# Altium schematic symbol library kmilo17pet-LT_PMIC_LT.SchLib: 2252 symbols (part 83 of 124)
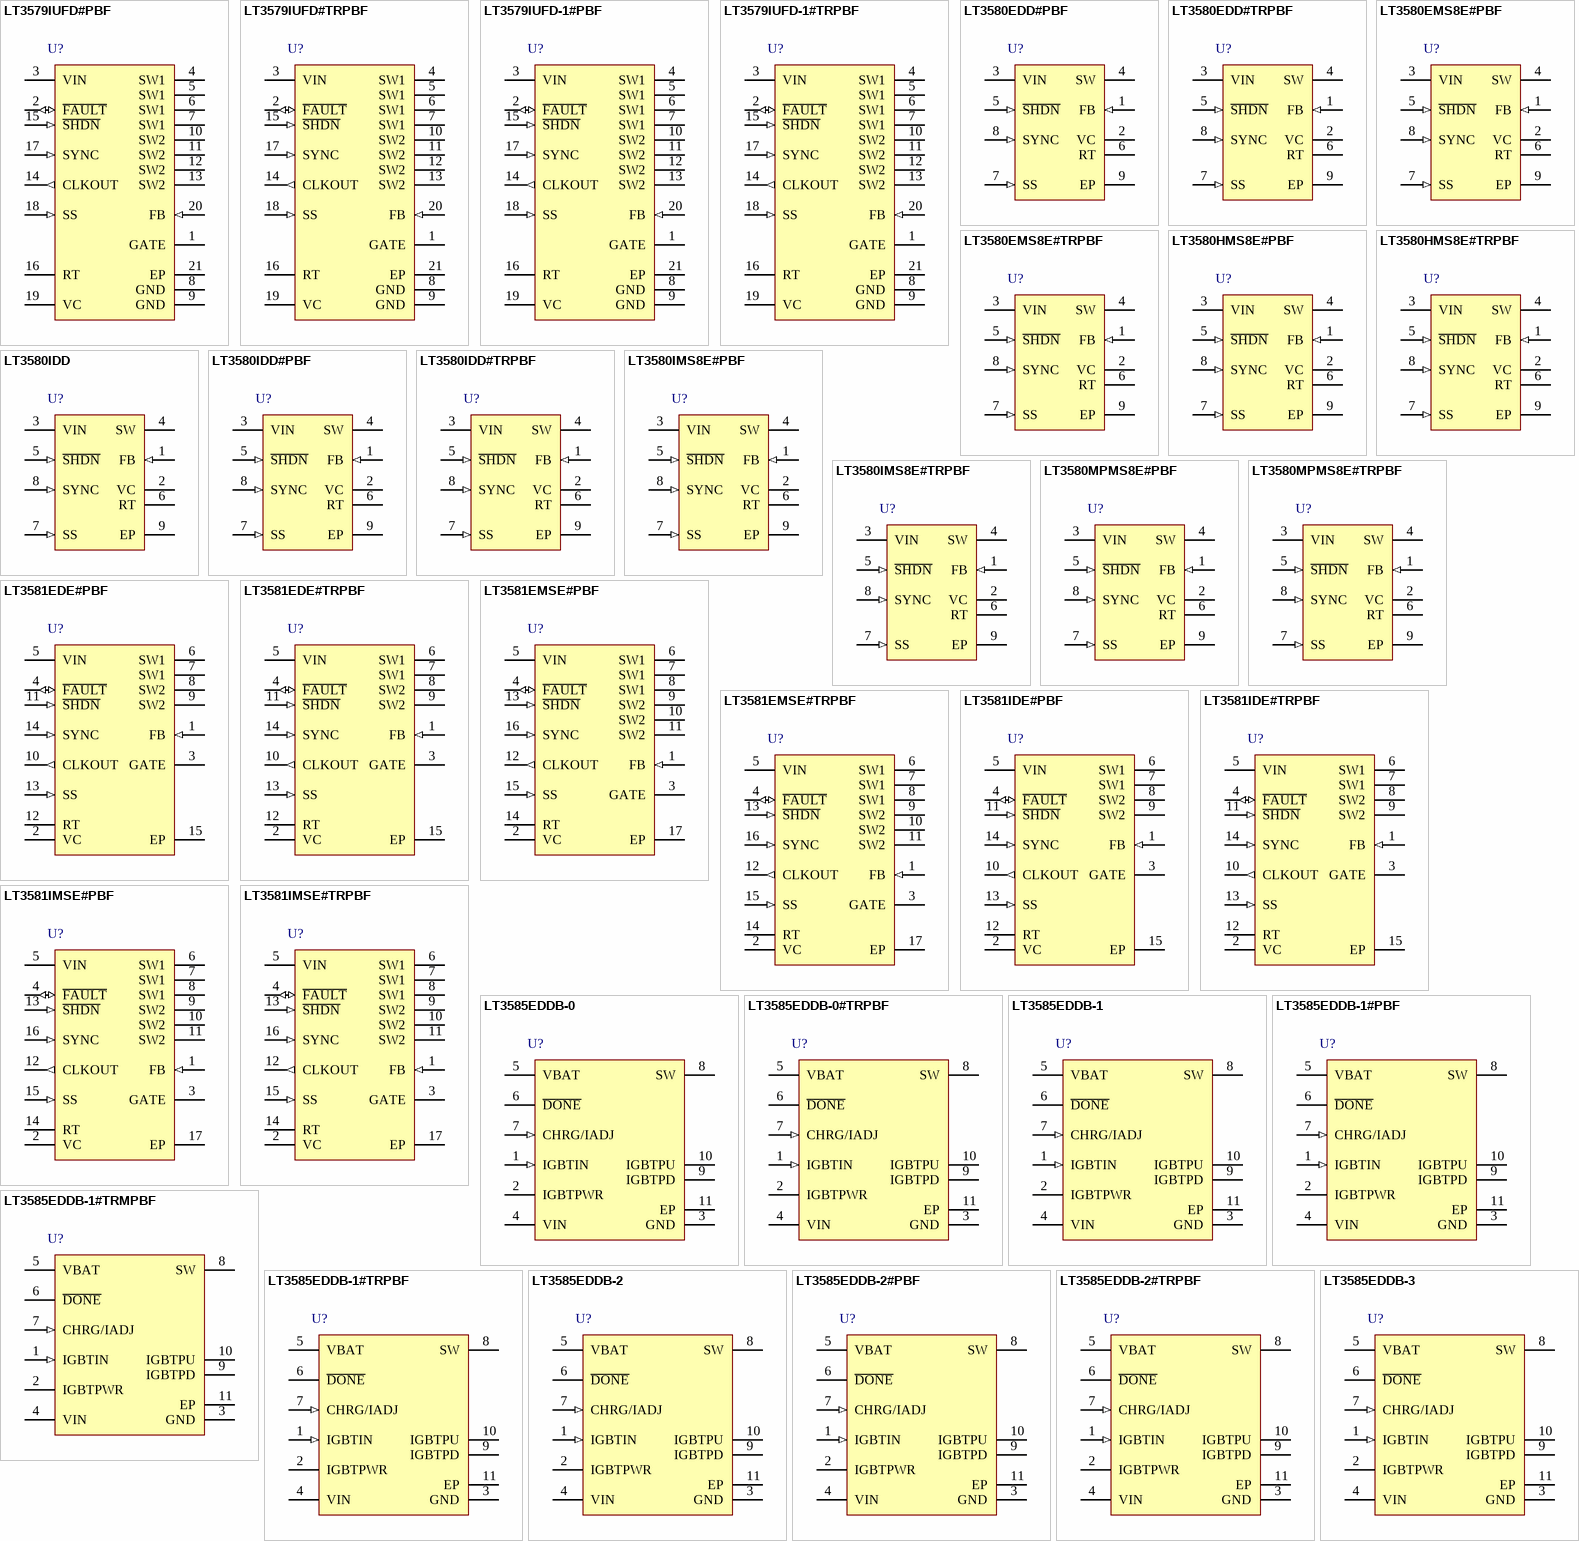
[diagram p153: symbols LT3579IUFD#PBF to LT3585EDDB-3]

## LT3580IDD#PBF
designator U?
Boost / Inverting DC/DC Converter with 2 A Switch, Soft-Start, and Synchronization, 8-pin SON (DD-8), -40 to 125 deC, Pb-Free; Manufacturer: Linear Technology; PartNumber: LT3580IDD#PBF; Number of Outputs: 1; PackageReference: DD-8; PackageDescription: 8-Pin Plastic DFN, Body 3 x 3 mm, Pitch 0.5 mm; Supplier 1: Digi-Key; Supplier Part Number 1: LT3580IDD#PBF-ND; RoHS: TRUE
footprint LT-DD-8_V (SON, 8-Leads, Body 3x3mm, Pitch 0.5mm, Thermal Pad 1.65x2.38 mm)
pins: 1 FB (in) "Positive and Negative Feedback Pin. For a boost or inverting converter, tie a resistor from the FB pin to VOUT according to the following equations", 2 VC "Error Amplifier Output Pin. Tie external compensation network to this pin.", 3 VIN (power) "Input Supply Pin. Must be locally bypassed.", 4 SW (power) "Switch Pin. This is the collector of the internal NPN Power switch. Minimize the metal trace area connected to this pin to minimize EMI.", 5 ~{SHDN} (in) "Shutdown Pin. In conjunction with the UVLO (undervoltage lockout) circuit, this pin is used to enable/disable the chip and restart the soft-start sequence. Drive below 1.24V (LT3580E, LT3580I) or 1.22V (LT3580H, LT3580MP) to (See Datasheet)", 6 RT "Timing Resistor Pin. Adjusts the switching frequency. Place a resistor from this pin to ground to set the frequency to a fixed free running level. Do not float this pin.", 7 SS (in) "Soft-Start Pin. Place a soft-start capacitor here. Upon start-up, the SS pin will be charged by a (nominally) 275k resistor to about 2.2V.", 8 SYNC (in) "To synchronize the switching frequency to an outside clock, simply drive this pin with a clock. The high voltage level of the clock needs to exceed 1.3V, and the low level should be less 0.4V. Drive this pin to less than 0.(See Datasheet)", 9 EP (power) "Ground. Exposed pad must be soldered directly to local ground plane."

## LT3580IDD#TRPBF
designator U?
Boost / Inverting DC/DC Converter with 2 A Switch, Soft-Start, and Synchronization, 8-pin SON (DD-8), -40 to 125 deC, Pb-Free, Tape and Reel; Manufacturer: Linear Technology; PartNumber: LT3580IDD#TRPBF; Number of Outputs: 1; PackageReference: DD-8; PackageDescription: 8-Pin Plastic DFN, Body 3 x 3 mm, Pitch 0.5 mm; Supplier 1: Digi-Key; Supplier Part Number 1: LT3580IDD#TRPBF-ND; RoHS: TRUE
footprint LT-DD-8_V (SON, 8-Leads, Body 3x3mm, Pitch 0.5mm, Thermal Pad 1.65x2.38 mm)
pins: 1 FB (in) "Positive and Negative Feedback Pin. For a boost or inverting converter, tie a resistor from the FB pin to VOUT according to the following equations", 2 VC "Error Amplifier Output Pin. Tie external compensation network to this pin.", 3 VIN (power) "Input Supply Pin. Must be locally bypassed.", 4 SW (power) "Switch Pin. This is the collector of the internal NPN Power switch. Minimize the metal trace area connected to this pin to minimize EMI.", 5 ~{SHDN} (in) "Shutdown Pin. In conjunction with the UVLO (undervoltage lockout) circuit, this pin is used to enable/disable the chip and restart the soft-start sequence. Drive below 1.24V (LT3580E, LT3580I) or 1.22V (LT3580H, LT3580MP) to (See Datasheet)", 6 RT "Timing Resistor Pin. Adjusts the switching frequency. Place a resistor from this pin to ground to set the frequency to a fixed free running level. Do not float this pin.", 7 SS (in) "Soft-Start Pin. Place a soft-start capacitor here. Upon start-up, the SS pin will be charged by a (nominally) 275k resistor to about 2.2V.", 8 SYNC (in) "To synchronize the switching frequency to an outside clock, simply drive this pin with a clock. The high voltage level of the clock needs to exceed 1.3V, and the low level should be less 0.4V. Drive this pin to less than 0.(See Datasheet)", 9 EP (power) "Ground. Exposed pad must be soldered directly to local ground plane."

## LT3580IMS8E#PBF
designator U?
Boost / Inverting DC/DC Converter with 2 A Switch, Soft-Start, and Synchronization, 8-pin SOP (MS8E-8), -40 to 125 deC, Pb-Free; Manufacturer: Linear Technology; PartNumber: LT3580IMS8E#PBF; Number of Outputs: 1; PackageReference: MS8E-8; PackageDescription: 8-Pin Plastic MSOP, Exposed Die Pad, Body 3 x 3 mm, Pitch 0.65 mm; Supplier 1: Digi-Key; Supplier Part Number 1: LT3580IMS8E#PBF-ND; RoHS: TRUE
footprint LT-MS8E-8-1880X1680TP_N (SOP, 8-Leads, Body 3.1x3.1mm, Pitch 0.65mm, Thermal Pad 1.88x1.68mm, IPC Medium Density)
footprint LT-MS8E-8-1880X1680TP_L (SOP, 8-Leads, Body 3.1x3.1mm, Pitch 0.65mm, Thermal Pad 1.88x1.68mm, IPC High Density)
footprint LT-MS8E-8-1880X1680TP_M (SOP, 8-Leads, Body 3.1x3.1mm, Pitch 0.65mm, Thermal Pad 1.88x1.68mm, IPC Low Density)
pins: 1 FB (in) "Positive and Negative Feedback Pin. For a boost or inverting converter, tie a resistor from the FB pin to VOUT according to the following equations", 2 VC "Error Amplifier Output Pin. Tie external compensation network to this pin.", 3 VIN (power) "Input Supply Pin. Must be locally bypassed.", 4 SW (power) "Switch Pin. This is the collector of the internal NPN Power switch. Minimize the metal trace area connected to this pin to minimize EMI.", 5 ~{SHDN} (in) "Shutdown Pin. In conjunction with the UVLO (undervoltage lockout) circuit, this pin is used to enable/disable the chip and restart the soft-start sequence. Drive below 1.24V (LT3580E, LT3580I) or 1.22V (LT3580H, LT3580MP) to (See Datasheet)", 6 RT "Timing Resistor Pin. Adjusts the switching frequency. Place a resistor from this pin to ground to set the frequency to a fixed free running level. Do not float this pin.", 7 SS (in) "Soft-Start Pin. Place a soft-start capacitor here. Upon start-up, the SS pin will be charged by a (nominally) 275k resistor to about 2.2V.", 8 SYNC (in) "To synchronize the switching frequency to an outside clock, simply drive this pin with a clock. The high voltage level of the clock needs to exceed 1.3V, and the low level should be less 0.4V. Drive this pin to less than 0.(See Datasheet)", 9 EP (power) "Ground. Exposed pad must be soldered directly to local ground plane."

## LT3580IMS8E#TRPBF
designator U?
Boost / Inverting DC/DC Converter with 2 A Switch, Soft-Start, and Synchronization, 8-pin SOP (MS8E-8), -40 to 125 deC, Pb-Free, Tape and Reel; Manufacturer: Linear Technology; PartNumber: LT3580IMS8E#TRPBF; Number of Outputs: 1; PackageReference: MS8E-8; PackageDescription: 8-Pin Plastic MSOP, Exposed Die Pad, Body 3 x 3 mm, Pitch 0.65 mm; Supplier 1: Digi-Key; Supplier Part Number 1: LT3580IMS8E#TRPBF-ND; RoHS: TRUE
footprint LT-MS8E-8-1880X1680TP_N (SOP, 8-Leads, Body 3.1x3.1mm, Pitch 0.65mm, Thermal Pad 1.88x1.68mm, IPC Medium Density)
footprint LT-MS8E-8-1880X1680TP_L (SOP, 8-Leads, Body 3.1x3.1mm, Pitch 0.65mm, Thermal Pad 1.88x1.68mm, IPC High Density)
footprint LT-MS8E-8-1880X1680TP_M (SOP, 8-Leads, Body 3.1x3.1mm, Pitch 0.65mm, Thermal Pad 1.88x1.68mm, IPC Low Density)
pins: 1 FB (in) "Positive and Negative Feedback Pin. For a boost or inverting converter, tie a resistor from the FB pin to VOUT according to the following equations", 2 VC "Error Amplifier Output Pin. Tie external compensation network to this pin.", 3 VIN (power) "Input Supply Pin. Must be locally bypassed.", 4 SW (power) "Switch Pin. This is the collector of the internal NPN Power switch. Minimize the metal trace area connected to this pin to minimize EMI.", 5 ~{SHDN} (in) "Shutdown Pin. In conjunction with the UVLO (undervoltage lockout) circuit, this pin is used to enable/disable the chip and restart the soft-start sequence. Drive below 1.24V (LT3580E, LT3580I) or 1.22V (LT3580H, LT3580MP) to (See Datasheet)", 6 RT "Timing Resistor Pin. Adjusts the switching frequency. Place a resistor from this pin to ground to set the frequency to a fixed free running level. Do not float this pin.", 7 SS (in) "Soft-Start Pin. Place a soft-start capacitor here. Upon start-up, the SS pin will be charged by a (nominally) 275k resistor to about 2.2V.", 8 SYNC (in) "To synchronize the switching frequency to an outside clock, simply drive this pin with a clock. The high voltage level of the clock needs to exceed 1.3V, and the low level should be less 0.4V. Drive this pin to less than 0.(See Datasheet)", 9 EP (power) "Ground. Exposed pad must be soldered directly to local ground plane."

## LT3580MPMS8E#PBF
designator U?
Boost / Inverting DC/DC Converter with 2 A Switch, Soft-Start, and Synchronization, 8-pin SOP (MS8E-8), -55 to 150 deC, Pb-Free; Manufacturer: Linear Technology; PartNumber: LT3580MPMS8E#PBF; Number of Outputs: 1; PackageReference: MS8E-8; PackageDescription: 8-Pin Plastic MSOP, Exposed Die Pad, Body 3 x 3 mm, Pitch 0.65 mm; Supplier 1: Digi-Key; Supplier Part Number 1: LT3580MPMS8E#PBF-ND; RoHS: TRUE
footprint LT-MS8E-8-1880X1680TP_N (SOP, 8-Leads, Body 3.1x3.1mm, Pitch 0.65mm, Thermal Pad 1.88x1.68mm, IPC Medium Density)
footprint LT-MS8E-8-1880X1680TP_L (SOP, 8-Leads, Body 3.1x3.1mm, Pitch 0.65mm, Thermal Pad 1.88x1.68mm, IPC High Density)
footprint LT-MS8E-8-1880X1680TP_M (SOP, 8-Leads, Body 3.1x3.1mm, Pitch 0.65mm, Thermal Pad 1.88x1.68mm, IPC Low Density)
pins: 1 FB (in) "Positive and Negative Feedback Pin. For a boost or inverting converter, tie a resistor from the FB pin to VOUT according to the following equations", 2 VC "Error Amplifier Output Pin. Tie external compensation network to this pin.", 3 VIN (power) "Input Supply Pin. Must be locally bypassed.", 4 SW (power) "Switch Pin. This is the collector of the internal NPN Power switch. Minimize the metal trace area connected to this pin to minimize EMI.", 5 ~{SHDN} (in) "Shutdown Pin. In conjunction with the UVLO (undervoltage lockout) circuit, this pin is used to enable/disable the chip and restart the soft-start sequence. Drive below 1.24V (LT3580E, LT3580I) or 1.22V (LT3580H, LT3580MP) to (See Datasheet)", 6 RT "Timing Resistor Pin. Adjusts the switching frequency. Place a resistor from this pin to ground to set the frequency to a fixed free running level. Do not float this pin.", 7 SS (in) "Soft-Start Pin. Place a soft-start capacitor here. Upon start-up, the SS pin will be charged by a (nominally) 275k resistor to about 2.2V.", 8 SYNC (in) "To synchronize the switching frequency to an outside clock, simply drive this pin with a clock. The high voltage level of the clock needs to exceed 1.3V, and the low level should be less 0.4V. Drive this pin to less than 0.(See Datasheet)", 9 EP (power) "Ground. Exposed pad must be soldered directly to local ground plane."

## LT3580MPMS8E#TRPBF
designator U?
Boost / Inverting DC/DC Converter with 2 A Switch, Soft-Start, and Synchronization, 8-pin SOP (MS8E-8), -55 to 150 deC, Pb-Free, Tape and Reel; Manufacturer: Linear Technology; PartNumber: LT3580MPMS8E#TRPBF; Number of Outputs: 1; PackageReference: MS8E-8; PackageDescription: 8-Pin Plastic MSOP, Exposed Die Pad, Body 3 x 3 mm, Pitch 0.65 mm; Supplier 1: Digi-Key; Supplier Part Number 1: LT3580MPMS8E#TRPBF-ND; RoHS: TRUE
footprint LT-MS8E-8-1880X1680TP_N (SOP, 8-Leads, Body 3.1x3.1mm, Pitch 0.65mm, Thermal Pad 1.88x1.68mm, IPC Medium Density)
footprint LT-MS8E-8-1880X1680TP_L (SOP, 8-Leads, Body 3.1x3.1mm, Pitch 0.65mm, Thermal Pad 1.88x1.68mm, IPC High Density)
footprint LT-MS8E-8-1880X1680TP_M (SOP, 8-Leads, Body 3.1x3.1mm, Pitch 0.65mm, Thermal Pad 1.88x1.68mm, IPC Low Density)
pins: 1 FB (in) "Positive and Negative Feedback Pin. For a boost or inverting converter, tie a resistor from the FB pin to VOUT according to the following equations", 2 VC "Error Amplifier Output Pin. Tie external compensation network to this pin.", 3 VIN (power) "Input Supply Pin. Must be locally bypassed.", 4 SW (power) "Switch Pin. This is the collector of the internal NPN Power switch. Minimize the metal trace area connected to this pin to minimize EMI.", 5 ~{SHDN} (in) "Shutdown Pin. In conjunction with the UVLO (undervoltage lockout) circuit, this pin is used to enable/disable the chip and restart the soft-start sequence. Drive below 1.24V (LT3580E, LT3580I) or 1.22V (LT3580H, LT3580MP) to (See Datasheet)", 6 RT "Timing Resistor Pin. Adjusts the switching frequency. Place a resistor from this pin to ground to set the frequency to a fixed free running level. Do not float this pin.", 7 SS (in) "Soft-Start Pin. Place a soft-start capacitor here. Upon start-up, the SS pin will be charged by a (nominally) 275k resistor to about 2.2V.", 8 SYNC (in) "To synchronize the switching frequency to an outside clock, simply drive this pin with a clock. The high voltage level of the clock needs to exceed 1.3V, and the low level should be less 0.4V. Drive this pin to less than 0.(See Datasheet)", 9 EP (power) "Ground. Exposed pad must be soldered directly to local ground plane."

## LT3581EDE#PBF
designator U?
3.3 A Boost / Inverting DC/DC Converter, 14-pin SON (DE-14), -40 to 125 deC, Pb-Free; Manufacturer: Linear Technology; PartNumber: LT3581EDE#PBF; Number of Outputs: 1; PackageReference: DE-14; PackageDescription: 14-Pin Plastic DFN, Body 4 x 3 mm, Pitch 0.5 mm; Supplier 1: Digi-Key; Supplier Part Number 1: LT3581EDE#PBF-ND; RoHS: TRUE
footprint LT-DE-14_V (SON, 14-Leads, Body 4x3mm, Pitch 0.5mm, Thermal Pad 3.3x1.7mm)
pins: 1 FB (in) "Positive and Negative Feedback Pin. For a Boost or Inverting Converter, tie a resistor from the FB pin to VOUT according to the following equations", 2 VC "Error Amplifier Output Pin. Tie external compensation network to this pin.", 3 GATE (hiz) "PMOS Gate Drive Pin. The GATE pin is a pull-down current source, used to drive the gate of an external PMOS for output short circuit protection or output disconnect. The GATE pin current increases linearly with the SS (See Datasheet)", 4 ~{FAULT} (io) "Fault Indication Pin. This active low, bidirectional pin can either be pulled low (below 750mV) by an external source, or internally by the chip to indicate a fault. When pulled low, this pin causes the power switches to (See Datasheet)", 5 VIN (power) "Input Supply Pin. Must be locally bypassed.", 6 SW1 "Master Switch Pin. This is the collector of the internal master NPN power switch. Minimize the metal trace area connected to this pin to minimize EMI.", 7 SW1 "Master Switch Pin. This is the collector of the internal master NPN power switch. Minimize the metal trace area connected to this pin to minimize EMI.", 8 SW2 "Slave Switch Pin. This is the collector of the internal slave NPN power switch.Minimize the metal trace area connected to this pin to minimize EMI.", 9 SW2 "Slave Switch Pin. This is the collector of the internal slave NPN power switch.Minimize the metal trace area connected to this pin to minimize EMI.", 10 CLKOUT (out) "Clock Output Pin. Use this pin to synchronize one or more other compatible switching regulator ICs to the LT3581. The clock that this pin outputs runs at the same frequency as the internal oscillator of the part or as the (See Datasheet)", 11 ~{SHDN} (in) "Shutdown Pin. In conjunction with the UVLO (undervoltage lockout) circuit, this pin is used to enable/disable the chip and restart the soft-start sequence. Drive below 300mV to disable the chip. Drive above 1.33V (typical) (See Datasheet)", 12 RT "Timing Resistor Pin. Adjusts the LT3581's switching frequency. Place a resistor from this pin to ground to set the frequency to a fixed free running level. Do not float this pin.", 13 SS (in) "Soft-Start Pin. Place a soft-start capacitor here. Upon start-up, the SS pin will be charged by a (nominally) 250k resistor to about 2.1V. During a fault, the SS pin will be slowly charged up and eventually discharged as (See Datasheet)", 14 SYNC (in) "To synchronize the switching frequency to an outside clock, simply drive this pin with a clock. The high voltage level of the clock must exceed 1.3V, and the low level must be less than 0.4V. Drive this pin to less than 0.4V (See Datasheet)", 15 EP (power) "Ground. Exposed pad must be soldered directly to local ground plane."

## LT3581EDE#TRPBF
designator U?
3.3 A Boost / Inverting DC/DC Converter, 14-pin SON (DE-14), -40 to 125 deC, Pb-Free, Tape and Reel; Manufacturer: Linear Technology; PartNumber: LT3581EDE#TRPBF; Number of Outputs: 1; PackageReference: DE-14; PackageDescription: 14-Pin Plastic DFN, Body 4 x 3 mm, Pitch 0.5 mm; Supplier 1: Digi-Key; Supplier Part Number 1: LT3581EDE#TRPBF-ND; RoHS: TRUE
footprint LT-DE-14_V (SON, 14-Leads, Body 4x3mm, Pitch 0.5mm, Thermal Pad 3.3x1.7mm)
pins: 1 FB (in) "Positive and Negative Feedback Pin. For a Boost or Inverting Converter, tie a resistor from the FB pin to VOUT according to the following equations", 2 VC "Error Amplifier Output Pin. Tie external compensation network to this pin.", 3 GATE (hiz) "PMOS Gate Drive Pin. The GATE pin is a pull-down current source, used to drive the gate of an external PMOS for output short circuit protection or output disconnect. The GATE pin current increases linearly with the SS (See Datasheet)", 4 ~{FAULT} (io) "Fault Indication Pin. This active low, bidirectional pin can either be pulled low (below 750mV) by an external source, or internally by the chip to indicate a fault. When pulled low, this pin causes the power switches to (See Datasheet)", 5 VIN (power) "Input Supply Pin. Must be locally bypassed.", 6 SW1 "Master Switch Pin. This is the collector of the internal master NPN power switch. Minimize the metal trace area connected to this pin to minimize EMI.", 7 SW1 "Master Switch Pin. This is the collector of the internal master NPN power switch. Minimize the metal trace area connected to this pin to minimize EMI.", 8 SW2 "Slave Switch Pin. This is the collector of the internal slave NPN power switch.Minimize the metal trace area connected to this pin to minimize EMI.", 9 SW2 "Slave Switch Pin. This is the collector of the internal slave NPN power switch.Minimize the metal trace area connected to this pin to minimize EMI.", 10 CLKOUT (out) "Clock Output Pin. Use this pin to synchronize one or more other compatible switching regulator ICs to the LT3581. The clock that this pin outputs runs at the same frequency as the internal oscillator of the part or as the (See Datasheet)", 11 ~{SHDN} (in) "Shutdown Pin. In conjunction with the UVLO (undervoltage lockout) circuit, this pin is used to enable/disable the chip and restart the soft-start sequence. Drive below 300mV to disable the chip. Drive above 1.33V (typical) (See Datasheet)", 12 RT "Timing Resistor Pin. Adjusts the LT3581's switching frequency. Place a resistor from this pin to ground to set the frequency to a fixed free running level. Do not float this pin.", 13 SS (in) "Soft-Start Pin. Place a soft-start capacitor here. Upon start-up, the SS pin will be charged by a (nominally) 250k resistor to about 2.1V. During a fault, the SS pin will be slowly charged up and eventually discharged as (See Datasheet)", 14 SYNC (in) "To synchronize the switching frequency to an outside clock, simply drive this pin with a clock. The high voltage level of the clock must exceed 1.3V, and the low level must be less than 0.4V. Drive this pin to less than 0.4V (See Datasheet)", 15 EP (power) "Ground. Exposed pad must be soldered directly to local ground plane."

## LT3581EMSE#PBF
designator U?
3.3 A Boost / Inverting DC/DC Converter, 16-pin SOP (MSE-16-EDP), -40 to 125 deC, Pb-Free; Manufacturer: Linear Technology; PartNumber: LT3581EMSE#PBF; Number of Outputs: 1; PackageReference: MSE-16; PackageDescription: 16-Pin Plastic MSOP, Exposed Die Pad, Body 4.039 x 3 mm, Pitch 0.5 mm; Supplier 1: Digi-Key; Supplier Part Number 1: LT3581EMSE#PBF-ND; RoHS: TRUE
footprint LT-MSE-16-EDP_N (SOP, 16-Leads, Body 4.1x3.1mm, Pitch 0.5mm, Thermal Pad 2.95x1.76mm, IPC Medium Density)
footprint LT-MSE-16-EDP_L (SOP, 16-Leads, Body 4.1x3.1mm, Pitch 0.5mm, Thermal Pad 2.95x1.76mm, IPC High Density)
footprint LT-MSE-16-EDP_M (SOP, 16-Leads, Body 4.1x3.1mm, Pitch 0.5mm, Thermal Pad 2.95x1.76mm, IPC Low Density)
pins: 1 FB (in) "Positive and Negative Feedback Pin. For a Boost or Inverting Converter, tie a resistor from the FB pin to VOUT according to the following equations.", 2 VC "Error Amplifier Output Pin. Tie external compensation network to this pin.", 3 GATE (hiz) "PMOS Gate Drive Pin. The GATE pin is a pull-down current source, used to drive the gate of an external PMOS for output short circuit protection or output disconnect. The GATE pin current increases linearly with the SS (See Datasheet)", 4 ~{FAULT} (io) "Fault Indication Pin. This active low, bidirectional pin can either be pulled low (below 750mV) by an external source, or internally by the chip to indicate a fault. When pulled low, this pin causes the power switches to (See Datasheet)", 5 VIN (power) "Input Supply Pin. Must be locally bypassed.", 6 SW1 "Master Switch Pin. This is the collector of the internal master NPN power switch. Minimize the metal trace area connected to this pin to minimize EMI.", 7 SW1 "Master Switch Pin. This is the collector of the internal master NPN power switch. Minimize the metal trace area connected to this pin to minimize EMI.", 8 SW1 "Master Switch Pin. This is the collector of the internal master NPN power switch. Minimize the metal trace area connected to this pin to minimize EMI.", 9 SW2 "Slave Switch Pin. This is the collector of the internal slave NPN power switch. Minimize the metal trace area connected to this pin to minimize EMI.", 10 SW2 "Slave Switch Pin. This is the collector of the internal slave NPN power switch. Minimize the metal trace area connected to this pin to minimize EMI.", 11 SW2 "Slave Switch Pin. This is the collector of the internal slave NPN power switch. Minimize the metal trace area connected to this pin to minimize EMI.", 12 CLKOUT (out) "Clock Output Pin. Use this pin to synchronize one or more other compatible switching regulator ICs to the LT3581. The clock that this pin outputs runs at the same frequency as the internal oscillator of the part or as the (See Datasheet)", 13 ~{SHDN} (in) "Shutdown Pin. In conjunction with the UVLO (undervoltage lockout) circuit, this pin is used to enable/disable the chip and restart the soft-start sequence. Drive below 300mV to disable the chip. Drive above 1.33V (typical) (See Datasheet)", 14 RT "Timing Resistor Pin. Adjusts the LT3581’s switching frequency. Place a resistor from this pin to ground to set the frequency to a fixed free running level. Do not float this pin.", 15 SS (in) "Soft-Start Pin. Place a soft-start capacitor here. Upon start-up, the SS pin will be charged by a (nominally) 250k resistor to about 2.1V. During a fault, the SS pin will be slowly charged up and eventually discharged as (See Datasheet)", 16 SYNC (in) "To synchronize the switching frequency to an outside clock, simply drive this pin with a clock. The high voltage level of the clock must exceed 1.3V, and the low level must be less than 0.4V. Drive this pin to less than 0.4V (See Datasheet)", 17 EP (power) "Ground. Exposed pad must be soldered directly to local ground plane."

## LT3581EMSE#TRPBF
designator U?
3.3 A Boost / Inverting DC/DC Converter, 16-pin SOP (MSE-16-EDP), -40 to 125 deC, Pb-Free, Tape and Reel; Manufacturer: Linear Technology; PartNumber: LT3581EMSE#TRPBF; Number of Outputs: 1; PackageReference: MSE-16; PackageDescription: 16-Pin Plastic MSOP, Exposed Die Pad, Body 4.039 x 3 mm, Pitch 0.5 mm; Supplier 1: Digi-Key; Supplier Part Number 1: LT3581EMSE#TRPBF-ND; RoHS: TRUE
footprint LT-MSE-16-EDP_N (SOP, 16-Leads, Body 4.1x3.1mm, Pitch 0.5mm, Thermal Pad 2.95x1.76mm, IPC Medium Density)
footprint LT-MSE-16-EDP_L (SOP, 16-Leads, Body 4.1x3.1mm, Pitch 0.5mm, Thermal Pad 2.95x1.76mm, IPC High Density)
footprint LT-MSE-16-EDP_M (SOP, 16-Leads, Body 4.1x3.1mm, Pitch 0.5mm, Thermal Pad 2.95x1.76mm, IPC Low Density)
pins: 1 FB (in) "Positive and Negative Feedback Pin. For a Boost or Inverting Converter, tie a resistor from the FB pin to VOUT according to the following equations.", 2 VC "Error Amplifier Output Pin. Tie external compensation network to this pin.", 3 GATE (hiz) "PMOS Gate Drive Pin. The GATE pin is a pull-down current source, used to drive the gate of an external PMOS for output short circuit protection or output disconnect. The GATE pin current increases linearly with the SS (See Datasheet)", 4 ~{FAULT} (io) "Fault Indication Pin. This active low, bidirectional pin can either be pulled low (below 750mV) by an external source, or internally by the chip to indicate a fault. When pulled low, this pin causes the power switches to (See Datasheet)", 5 VIN (power) "Input Supply Pin. Must be locally bypassed.", 6 SW1 "Master Switch Pin. This is the collector of the internal master NPN power switch. Minimize the metal trace area connected to this pin to minimize EMI.", 7 SW1 "Master Switch Pin. This is the collector of the internal master NPN power switch. Minimize the metal trace area connected to this pin to minimize EMI.", 8 SW1 "Master Switch Pin. This is the collector of the internal master NPN power switch. Minimize the metal trace area connected to this pin to minimize EMI.", 9 SW2 "Slave Switch Pin. This is the collector of the internal slave NPN power switch. Minimize the metal trace area connected to this pin to minimize EMI.", 10 SW2 "Slave Switch Pin. This is the collector of the internal slave NPN power switch. Minimize the metal trace area connected to this pin to minimize EMI.", 11 SW2 "Slave Switch Pin. This is the collector of the internal slave NPN power switch. Minimize the metal trace area connected to this pin to minimize EMI.", 12 CLKOUT (out) "Clock Output Pin. Use this pin to synchronize one or more other compatible switching regulator ICs to the LT3581. The clock that this pin outputs runs at the same frequency as the internal oscillator of the part or as the (See Datasheet)", 13 ~{SHDN} (in) "Shutdown Pin. In conjunction with the UVLO (undervoltage lockout) circuit, this pin is used to enable/disable the chip and restart the soft-start sequence. Drive below 300mV to disable the chip. Drive above 1.33V (typical) (See Datasheet)", 14 RT "Timing Resistor Pin. Adjusts the LT3581’s switching frequency. Place a resistor from this pin to ground to set the frequency to a fixed free running level. Do not float this pin.", 15 SS (in) "Soft-Start Pin. Place a soft-start capacitor here. Upon start-up, the SS pin will be charged by a (nominally) 250k resistor to about 2.1V. During a fault, the SS pin will be slowly charged up and eventually discharged as (See Datasheet)", 16 SYNC (in) "To synchronize the switching frequency to an outside clock, simply drive this pin with a clock. The high voltage level of the clock must exceed 1.3V, and the low level must be less than 0.4V. Drive this pin to less than 0.4V (See Datasheet)", 17 EP (power) "Ground. Exposed pad must be soldered directly to local ground plane."

## LT3581IDE#PBF
designator U?
3.3 A Boost / Inverting DC/DC Converter, 14-pin SON (DE-14), -40 to 125 deC, Pb-Free; Manufacturer: Linear Technology; PartNumber: LT3581IDE#PBF; Number of Outputs: 1; PackageReference: DE-14; PackageDescription: 14-Pin Plastic DFN, Body 4 x 3 mm, Pitch 0.5 mm; Supplier 1: Digi-Key; Supplier Part Number 1: LT3581IDE#PBF-ND; RoHS: TRUE
footprint LT-DE-14_V (SON, 14-Leads, Body 4x3mm, Pitch 0.5mm, Thermal Pad 3.3x1.7mm)
pins: 1 FB (in) "Positive and Negative Feedback Pin. For a Boost or Inverting Converter, tie a resistor from the FB pin to VOUT according to the following equations", 2 VC "Error Amplifier Output Pin. Tie external compensation network to this pin.", 3 GATE (hiz) "PMOS Gate Drive Pin. The GATE pin is a pull-down current source, used to drive the gate of an external PMOS for output short circuit protection or output disconnect. The GATE pin current increases linearly with the SS (See Datasheet)", 4 ~{FAULT} (io) "Fault Indication Pin. This active low, bidirectional pin can either be pulled low (below 750mV) by an external source, or internally by the chip to indicate a fault. When pulled low, this pin causes the power switches to (See Datasheet)", 5 VIN (power) "Input Supply Pin. Must be locally bypassed.", 6 SW1 "Master Switch Pin. This is the collector of the internal master NPN power switch. Minimize the metal trace area connected to this pin to minimize EMI.", 7 SW1 "Master Switch Pin. This is the collector of the internal master NPN power switch. Minimize the metal trace area connected to this pin to minimize EMI.", 8 SW2 "Slave Switch Pin. This is the collector of the internal slave NPN power switch.Minimize the metal trace area connected to this pin to minimize EMI.", 9 SW2 "Slave Switch Pin. This is the collector of the internal slave NPN power switch.Minimize the metal trace area connected to this pin to minimize EMI.", 10 CLKOUT (out) "Clock Output Pin. Use this pin to synchronize one or more other compatible switching regulator ICs to the LT3581. The clock that this pin outputs runs at the same frequency as the internal oscillator of the part or as the (See Datasheet)", 11 ~{SHDN} (in) "Shutdown Pin. In conjunction with the UVLO (undervoltage lockout) circuit, this pin is used to enable/disable the chip and restart the soft-start sequence. Drive below 300mV to disable the chip. Drive above 1.33V (typical) (See Datasheet)", 12 RT "Timing Resistor Pin. Adjusts the LT3581's switching frequency. Place a resistor from this pin to ground to set the frequency to a fixed free running level. Do not float this pin.", 13 SS (in) "Soft-Start Pin. Place a soft-start capacitor here. Upon start-up, the SS pin will be charged by a (nominally) 250k resistor to about 2.1V. During a fault, the SS pin will be slowly charged up and eventually discharged as (See Datasheet)", 14 SYNC (in) "To synchronize the switching frequency to an outside clock, simply drive this pin with a clock. The high voltage level of the clock must exceed 1.3V, and the low level must be less than 0.4V. Drive this pin to less than 0.4V (See Datasheet)", 15 EP (power) "Ground. Exposed pad must be soldered directly to local ground plane."

## LT3581IDE#TRPBF
designator U?
3.3 A Boost / Inverting DC/DC Converter, 14-pin SON (DE-14), -40 to 125 deC, Pb-Free, Tape and Reel; Manufacturer: Linear Technology; PartNumber: LT3581IDE#TRPBF; Number of Outputs: 1; PackageReference: DE-14; PackageDescription: 14-Pin Plastic DFN, Body 4 x 3 mm, Pitch 0.5 mm; Supplier 1: Digi-Key; Supplier Part Number 1: LT3581IDE#TRPBF-ND; RoHS: TRUE
footprint LT-DE-14_V (SON, 14-Leads, Body 4x3mm, Pitch 0.5mm, Thermal Pad 3.3x1.7mm)
pins: 1 FB (in) "Positive and Negative Feedback Pin. For a Boost or Inverting Converter, tie a resistor from the FB pin to VOUT according to the following equations", 2 VC "Error Amplifier Output Pin. Tie external compensation network to this pin.", 3 GATE (hiz) "PMOS Gate Drive Pin. The GATE pin is a pull-down current source, used to drive the gate of an external PMOS for output short circuit protection or output disconnect. The GATE pin current increases linearly with the SS (See Datasheet)", 4 ~{FAULT} (io) "Fault Indication Pin. This active low, bidirectional pin can either be pulled low (below 750mV) by an external source, or internally by the chip to indicate a fault. When pulled low, this pin causes the power switches to (See Datasheet)", 5 VIN (power) "Input Supply Pin. Must be locally bypassed.", 6 SW1 "Master Switch Pin. This is the collector of the internal master NPN power switch. Minimize the metal trace area connected to this pin to minimize EMI.", 7 SW1 "Master Switch Pin. This is the collector of the internal master NPN power switch. Minimize the metal trace area connected to this pin to minimize EMI.", 8 SW2 "Slave Switch Pin. This is the collector of the internal slave NPN power switch.Minimize the metal trace area connected to this pin to minimize EMI.", 9 SW2 "Slave Switch Pin. This is the collector of the internal slave NPN power switch.Minimize the metal trace area connected to this pin to minimize EMI.", 10 CLKOUT (out) "Clock Output Pin. Use this pin to synchronize one or more other compatible switching regulator ICs to the LT3581. The clock that this pin outputs runs at the same frequency as the internal oscillator of the part or as the (See Datasheet)", 11 ~{SHDN} (in) "Shutdown Pin. In conjunction with the UVLO (undervoltage lockout) circuit, this pin is used to enable/disable the chip and restart the soft-start sequence. Drive below 300mV to disable the chip. Drive above 1.33V (typical) (See Datasheet)", 12 RT "Timing Resistor Pin. Adjusts the LT3581's switching frequency. Place a resistor from this pin to ground to set the frequency to a fixed free running level. Do not float this pin.", 13 SS (in) "Soft-Start Pin. Place a soft-start capacitor here. Upon start-up, the SS pin will be charged by a (nominally) 250k resistor to about 2.1V. During a fault, the SS pin will be slowly charged up and eventually discharged as (See Datasheet)", 14 SYNC (in) "To synchronize the switching frequency to an outside clock, simply drive this pin with a clock. The high voltage level of the clock must exceed 1.3V, and the low level must be less than 0.4V. Drive this pin to less than 0.4V (See Datasheet)", 15 EP (power) "Ground. Exposed pad must be soldered directly to local ground plane."

## LT3581IMSE#PBF
designator U?
3.3 A Boost / Inverting DC/DC Converter, 16-pin SOP (MSE-16-EDP), -40 to 125 deC, Pb-Free; Manufacturer: Linear Technology; PartNumber: LT3581IMSE#PBF; Number of Outputs: 1; PackageReference: MSE-16; PackageDescription: 16-Pin Plastic MSOP, Exposed Die Pad, Body 4.039 x 3 mm, Pitch 0.5 mm; Supplier 1: Digi-Key; Supplier Part Number 1: LT3581IMSE#PBF-ND; RoHS: TRUE
footprint LT-MSE-16-EDP_N (SOP, 16-Leads, Body 4.1x3.1mm, Pitch 0.5mm, Thermal Pad 2.95x1.76mm, IPC Medium Density)
footprint LT-MSE-16-EDP_L (SOP, 16-Leads, Body 4.1x3.1mm, Pitch 0.5mm, Thermal Pad 2.95x1.76mm, IPC High Density)
footprint LT-MSE-16-EDP_M (SOP, 16-Leads, Body 4.1x3.1mm, Pitch 0.5mm, Thermal Pad 2.95x1.76mm, IPC Low Density)
pins: 1 FB (in) "Positive and Negative Feedback Pin. For a Boost or Inverting Converter, tie a resistor from the FB pin to VOUT according to the following equations.", 2 VC "Error Amplifier Output Pin. Tie external compensation network to this pin.", 3 GATE (hiz) "PMOS Gate Drive Pin. The GATE pin is a pull-down current source, used to drive the gate of an external PMOS for output short circuit protection or output disconnect. The GATE pin current increases linearly with the SS (See Datasheet)", 4 ~{FAULT} (io) "Fault Indication Pin. This active low, bidirectional pin can either be pulled low (below 750mV) by an external source, or internally by the chip to indicate a fault. When pulled low, this pin causes the power switches to (See Datasheet)", 5 VIN (power) "Input Supply Pin. Must be locally bypassed.", 6 SW1 "Master Switch Pin. This is the collector of the internal master NPN power switch. Minimize the metal trace area connected to this pin to minimize EMI.", 7 SW1 "Master Switch Pin. This is the collector of the internal master NPN power switch. Minimize the metal trace area connected to this pin to minimize EMI.", 8 SW1 "Master Switch Pin. This is the collector of the internal master NPN power switch. Minimize the metal trace area connected to this pin to minimize EMI.", 9 SW2 "Slave Switch Pin. This is the collector of the internal slave NPN power switch. Minimize the metal trace area connected to this pin to minimize EMI.", 10 SW2 "Slave Switch Pin. This is the collector of the internal slave NPN power switch. Minimize the metal trace area connected to this pin to minimize EMI.", 11 SW2 "Slave Switch Pin. This is the collector of the internal slave NPN power switch. Minimize the metal trace area connected to this pin to minimize EMI.", 12 CLKOUT (out) "Clock Output Pin. Use this pin to synchronize one or more other compatible switching regulator ICs to the LT3581. The clock that this pin outputs runs at the same frequency as the internal oscillator of the part or as the (See Datasheet)", 13 ~{SHDN} (in) "Shutdown Pin. In conjunction with the UVLO (undervoltage lockout) circuit, this pin is used to enable/disable the chip and restart the soft-start sequence. Drive below 300mV to disable the chip. Drive above 1.33V (typical) (See Datasheet)", 14 RT "Timing Resistor Pin. Adjusts the LT3581’s switching frequency. Place a resistor from this pin to ground to set the frequency to a fixed free running level. Do not float this pin.", 15 SS (in) "Soft-Start Pin. Place a soft-start capacitor here. Upon start-up, the SS pin will be charged by a (nominally) 250k resistor to about 2.1V. During a fault, the SS pin will be slowly charged up and eventually discharged as (See Datasheet)", 16 SYNC (in) "To synchronize the switching frequency to an outside clock, simply drive this pin with a clock. The high voltage level of the clock must exceed 1.3V, and the low level must be less than 0.4V. Drive this pin to less than 0.4V (See Datasheet)", 17 EP (power) "Ground. Exposed pad must be soldered directly to local ground plane."

## LT3581IMSE#TRPBF
designator U?
3.3 A Boost / Inverting DC/DC Converter, 16-pin SOP (MSE-16-EDP), -40 to 125 deC, Pb-Free, Tape and Reel; Manufacturer: Linear Technology; PartNumber: LT3581IMSE#TRPBF; Number of Outputs: 1; PackageReference: MSE-16; PackageDescription: 16-Pin Plastic MSOP, Exposed Die Pad, Body 4.039 x 3 mm, Pitch 0.5 mm; Supplier 1: Digi-Key; Supplier Part Number 1: LT3581IMSE#TRPBF-ND; RoHS: TRUE
footprint LT-MSE-16-EDP_N (SOP, 16-Leads, Body 4.1x3.1mm, Pitch 0.5mm, Thermal Pad 2.95x1.76mm, IPC Medium Density)
footprint LT-MSE-16-EDP_L (SOP, 16-Leads, Body 4.1x3.1mm, Pitch 0.5mm, Thermal Pad 2.95x1.76mm, IPC High Density)
footprint LT-MSE-16-EDP_M (SOP, 16-Leads, Body 4.1x3.1mm, Pitch 0.5mm, Thermal Pad 2.95x1.76mm, IPC Low Density)
pins: 1 FB (in) "Positive and Negative Feedback Pin. For a Boost or Inverting Converter, tie a resistor from the FB pin to VOUT according to the following equations.", 2 VC "Error Amplifier Output Pin. Tie external compensation network to this pin.", 3 GATE (hiz) "PMOS Gate Drive Pin. The GATE pin is a pull-down current source, used to drive the gate of an external PMOS for output short circuit protection or output disconnect. The GATE pin current increases linearly with the SS (See Datasheet)", 4 ~{FAULT} (io) "Fault Indication Pin. This active low, bidirectional pin can either be pulled low (below 750mV) by an external source, or internally by the chip to indicate a fault. When pulled low, this pin causes the power switches to (See Datasheet)", 5 VIN (power) "Input Supply Pin. Must be locally bypassed.", 6 SW1 "Master Switch Pin. This is the collector of the internal master NPN power switch. Minimize the metal trace area connected to this pin to minimize EMI.", 7 SW1 "Master Switch Pin. This is the collector of the internal master NPN power switch. Minimize the metal trace area connected to this pin to minimize EMI.", 8 SW1 "Master Switch Pin. This is the collector of the internal master NPN power switch. Minimize the metal trace area connected to this pin to minimize EMI.", 9 SW2 "Slave Switch Pin. This is the collector of the internal slave NPN power switch. Minimize the metal trace area connected to this pin to minimize EMI.", 10 SW2 "Slave Switch Pin. This is the collector of the internal slave NPN power switch. Minimize the metal trace area connected to this pin to minimize EMI.", 11 SW2 "Slave Switch Pin. This is the collector of the internal slave NPN power switch. Minimize the metal trace area connected to this pin to minimize EMI.", 12 CLKOUT (out) "Clock Output Pin. Use this pin to synchronize one or more other compatible switching regulator ICs to the LT3581. The clock that this pin outputs runs at the same frequency as the internal oscillator of the part or as the (See Datasheet)", 13 ~{SHDN} (in) "Shutdown Pin. In conjunction with the UVLO (undervoltage lockout) circuit, this pin is used to enable/disable the chip and restart the soft-start sequence. Drive below 300mV to disable the chip. Drive above 1.33V (typical) (See Datasheet)", 14 RT "Timing Resistor Pin. Adjusts the LT3581’s switching frequency. Place a resistor from this pin to ground to set the frequency to a fixed free running level. Do not float this pin.", 15 SS (in) "Soft-Start Pin. Place a soft-start capacitor here. Upon start-up, the SS pin will be charged by a (nominally) 250k resistor to about 2.1V. During a fault, the SS pin will be slowly charged up and eventually discharged as (See Datasheet)", 16 SYNC (in) "To synchronize the switching frequency to an outside clock, simply drive this pin with a clock. The high voltage level of the clock must exceed 1.3V, and the low level must be less than 0.4V. Drive this pin to less than 0.4V (See Datasheet)", 17 EP (power) "Ground. Exposed pad must be soldered directly to local ground plane."

## LT3585EDDB-0
designator U?
Photoflash Charger with Adjustable Input Current and IGBT Driver, 10-pin SON (DDB-10), -40 to 85 degC; Manufacturer: Linear Technology; PartNumber: LT3585EDDB-0; Number of Outputs: 1; PackageReference: DDB10; PackageDescription: 10-Pin Plastic DFN, Body 3 x 2 mm, Pitch 0.5 mm; RoHS: FALSE
footprint LT-DDB-10_V (SON, 10-Leads, Body 3x2mm, Pitch 0.5mm, Thermal Pad 2.39x0.64mm)
pins: 1 IGBTIN (in) "Logic Input for the IGBT Driver. When this pin is driven higher than 1.5V, the output goes high. When the pin is below 0.5V, the output will go low.", 2 IGBTPWR (power) "Supply Pin for the IGBT Driver. Must be locally bypassed with a good quality ceramic capacitor. The minimum operating voltage for the IGBT driver is 2.5V.", 3 GND (power) "Ground. Tie directly to local ground plane.", 4 VIN (power) "Input Supply Pin. Must be locally bypassed with a good quality ceramic capacitor. The minimum operating voltage for VIN is 2.5V.", 5 VBAT (power) "Battery Supply Pin. Must be locally bypassed with a good quality ceramic capacitor. The minimum operating voltage for VBAT is 1.5V.", 6 ~{DONE} (oc) "Open NPN Collector Indication Pin. When target output voltage is reached, NPN turns on. This pin needs a proper pull-up resistor or current source.", 7 CHRG/IADJ (in) "Charge and Input Current Adjust Pin. A low (<0.3V) to high (>1.1V) transition on this pin puts the part into power delivery mode. Once the target output voltage is reached, the part will stop charging the output. Toggle this (See Datasheet)", 8 SW (power) "Switch Pin. This is the collector of the internal NPN Power switch. Minimize the metal trace area connected to this pin to minimize EMI. Tie one side of the primary of the transformer to this pin. The target output voltage (See Datasheet)", 9 IGBTPD (oc) "Pull-down Output for IGBT Gate. Connect this pin to the IGBT Gate. Add a series resistor to increase the turn-off time to protect the IGBT.", 10 IGBTPU (oe) "Pull-up Output for IGBT Gate. Connect this pin to the gate of the IGBT.", 11 EP (power) "Ground. Tie directly to local ground plane."

## LT3585EDDB-0#TRPBF
designator U?
Photoflash Charger with Adjustable Input Current and IGBT Driver, 10-pin SON (DDB-10), -40 to 85 degC, Pb-Free, Tape and Reel; Manufacturer: Linear Technology; PartNumber: LT3585EDDB-0#TRPBF; Number of Outputs: 1; PackageReference: DDB10; PackageDescription: 10-Pin Plastic DFN, Body 3 x 2 mm, Pitch 0.5 mm; Supplier 1: Digi-Key; Supplier Part Number 1: LT3585EDDB-0#TRPBF-ND; RoHS: TRUE
footprint LT-DDB-10_V (SON, 10-Leads, Body 3x2mm, Pitch 0.5mm, Thermal Pad 2.39x0.64mm)
pins: 1 IGBTIN (in) "Logic Input for the IGBT Driver. When this pin is driven higher than 1.5V, the output goes high. When the pin is below 0.5V, the output will go low.", 2 IGBTPWR (power) "Supply Pin for the IGBT Driver. Must be locally bypassed with a good quality ceramic capacitor. The minimum operating voltage for the IGBT driver is 2.5V.", 3 GND (power) "Ground. Tie directly to local ground plane.", 4 VIN (power) "Input Supply Pin. Must be locally bypassed with a good quality ceramic capacitor. The minimum operating voltage for VIN is 2.5V.", 5 VBAT (power) "Battery Supply Pin. Must be locally bypassed with a good quality ceramic capacitor. The minimum operating voltage for VBAT is 1.5V.", 6 ~{DONE} (oc) "Open NPN Collector Indication Pin. When target output voltage is reached, NPN turns on. This pin needs a proper pull-up resistor or current source.", 7 CHRG/IADJ (in) "Charge and Input Current Adjust Pin. A low (<0.3V) to high (>1.1V) transition on this pin puts the part into power delivery mode. Once the target output voltage is reached, the part will stop charging the output. Toggle this (See Datasheet)", 8 SW (power) "Switch Pin. This is the collector of the internal NPN Power switch. Minimize the metal trace area connected to this pin to minimize EMI. Tie one side of the primary of the transformer to this pin. The target output voltage (See Datasheet)", 9 IGBTPD (oc) "Pull-down Output for IGBT Gate. Connect this pin to the IGBT Gate. Add a series resistor to increase the turn-off time to protect the IGBT.", 10 IGBTPU (oe) "Pull-up Output for IGBT Gate. Connect this pin to the gate of the IGBT.", 11 EP (power) "Ground. Tie directly to local ground plane."

## LT3585EDDB-1
designator U?
Photoflash Charger with Adjustable Input Current and IGBT Driver, 10-pin SON (DDB-10), -40 to 85 degC; Manufacturer: Linear Technology; PartNumber: LT3585EDDB-1; Number of Outputs: 1; PackageReference: DDB10; PackageDescription: 10-Pin Plastic DFN, Body 3 x 2 mm, Pitch 0.5 mm; RoHS: FALSE
footprint LT-DDB-10_V (SON, 10-Leads, Body 3x2mm, Pitch 0.5mm, Thermal Pad 2.39x0.64mm)
pins: 1 IGBTIN (in) "Logic Input for the IGBT Driver. When this pin is driven higher than 1.5V, the output goes high. When the pin is below 0.5V, the output will go low.", 2 IGBTPWR (power) "Supply Pin for the IGBT Driver. Must be locally bypassed with a good quality ceramic capacitor. The minimum operating voltage for the IGBT driver is 2.5V.", 3 GND (power) "Ground. Tie directly to local ground plane.", 4 VIN (power) "Input Supply Pin. Must be locally bypassed with a good quality ceramic capacitor. The minimum operating voltage for VIN is 2.5V.", 5 VBAT (power) "Battery Supply Pin. Must be locally bypassed with a good quality ceramic capacitor. The minimum operating voltage for VBAT is 1.5V.", 6 ~{DONE} (oc) "Open NPN Collector Indication Pin. When target output voltage is reached, NPN turns on. This pin needs a proper pull-up resistor or current source.", 7 CHRG/IADJ (in) "Charge and Input Current Adjust Pin. A low (<0.3V) to high (>1.1V) transition on this pin puts the part into power delivery mode. Once the target output voltage is reached, the part will stop charging the output. Toggle this (See Datasheet)", 8 SW (power) "Switch Pin. This is the collector of the internal NPN Power switch. Minimize the metal trace area connected to this pin to minimize EMI. Tie one side of the primary of the transformer to this pin. The target output voltage (See Datasheet)", 9 IGBTPD (oc) "Pull-down Output for IGBT Gate. Connect this pin to the IGBT Gate. Add a series resistor to increase the turn-off time to protect the IGBT.", 10 IGBTPU (oe) "Pull-up Output for IGBT Gate. Connect this pin to the gate of the IGBT.", 11 EP (power) "Ground. Tie directly to local ground plane."

## LT3585EDDB-1#PBF
designator U?
Photoflash Charger with Adjustable Input Current and IGBT Driver, 10-pin SON (DDB-10), -40 to 85 degC, Pb-Free; Manufacturer: Linear Technology; PartNumber: LT3585EDDB-1#PBF; Number of Outputs: 1; PackageReference: DDB10; PackageDescription: 10-Pin Plastic DFN, Body 3 x 2 mm, Pitch 0.5 mm; RoHS: TRUE
footprint LT-DDB-10_V (SON, 10-Leads, Body 3x2mm, Pitch 0.5mm, Thermal Pad 2.39x0.64mm)
pins: 1 IGBTIN (in) "Logic Input for the IGBT Driver. When this pin is driven higher than 1.5V, the output goes high. When the pin is below 0.5V, the output will go low.", 2 IGBTPWR (power) "Supply Pin for the IGBT Driver. Must be locally bypassed with a good quality ceramic capacitor. The minimum operating voltage for the IGBT driver is 2.5V.", 3 GND (power) "Ground. Tie directly to local ground plane.", 4 VIN (power) "Input Supply Pin. Must be locally bypassed with a good quality ceramic capacitor. The minimum operating voltage for VIN is 2.5V.", 5 VBAT (power) "Battery Supply Pin. Must be locally bypassed with a good quality ceramic capacitor. The minimum operating voltage for VBAT is 1.5V.", 6 ~{DONE} (oc) "Open NPN Collector Indication Pin. When target output voltage is reached, NPN turns on. This pin needs a proper pull-up resistor or current source.", 7 CHRG/IADJ (in) "Charge and Input Current Adjust Pin. A low (<0.3V) to high (>1.1V) transition on this pin puts the part into power delivery mode. Once the target output voltage is reached, the part will stop charging the output. Toggle this (See Datasheet)", 8 SW (power) "Switch Pin. This is the collector of the internal NPN Power switch. Minimize the metal trace area connected to this pin to minimize EMI. Tie one side of the primary of the transformer to this pin. The target output voltage (See Datasheet)", 9 IGBTPD (oc) "Pull-down Output for IGBT Gate. Connect this pin to the IGBT Gate. Add a series resistor to increase the turn-off time to protect the IGBT.", 10 IGBTPU (oe) "Pull-up Output for IGBT Gate. Connect this pin to the gate of the IGBT.", 11 EP (power) "Ground. Tie directly to local ground plane."